# Altium footprint library 17444265.PcbLib: 1 footprints
Each footprint in its own frame and in the unit in brackets; x right, y up, seen from the top. Pads: shape width x height; smd on the part's side, far side on the other; paste and mask are expansions set on the pad; w line width, h text height; cw(c..) or ccw(c..) is an arc to the next point about the centre after c.
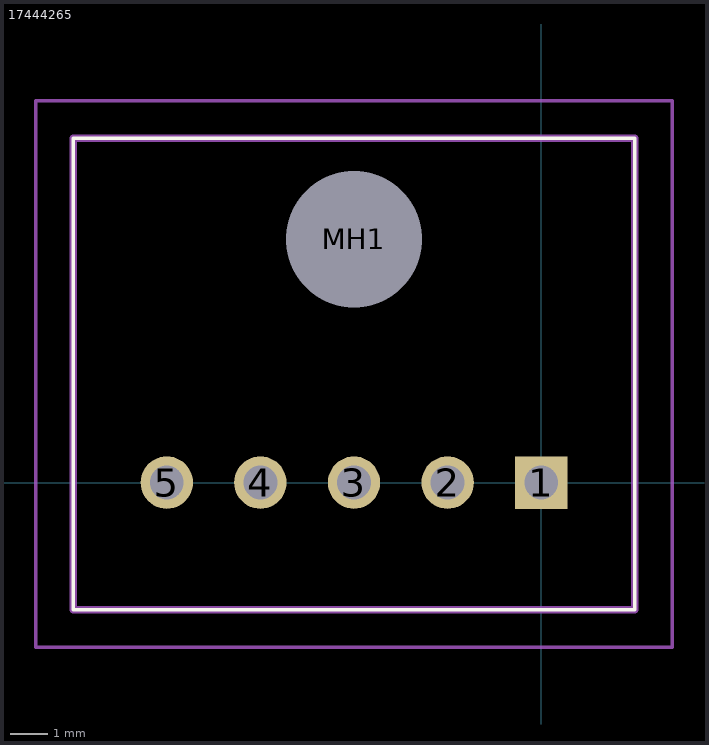
[diagram p0: the footprint, top view; thin cyan lines are the x and y axes]

## 17444265 [mm]
pads (6):
  rect 1.4x1.4 hole 0.9: 1(0,0)
  round 1.4 hole 0.9: 2(-2.5,0) 3(-5,0) 4(-7.5,0) 5(-10,0)
  round 1.82 hole 3.64 unplated: MH1(-5,6.5)
Top Overlay:
  lines w0.1: -12.5,-3.4 2.5,-3.4 2.5,9.2 -12.5,9.2 -12.5,-3.4
Mechanical 15:
  lines w0.2: -12.5,-3.4 2.5,-3.4 2.5,9.2 -12.5,9.2 -12.5,-3.4
Mechanical 20:
  lines w0.1: -13.5,-4.4 3.5,-4.4 3.5,10.2 -13.5,10.2 -13.5,-4.4